# Altium schematic symbol library Feather RP2040.SchLib: 1 symbol
Pins are listed as number, name and electrical type; pins without a type are passive.

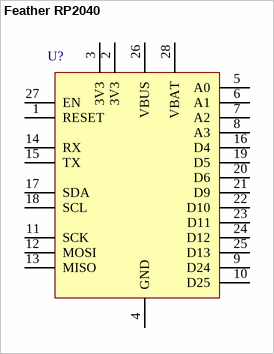
[diagram p0: symbol Feather RP2040]

## Feather RP2040
designator U?  (value not drawn)
pins: 1 RESET, 2 3V3, 3 3V3, 4 GND, 5 A0, 6 A1, 7 A2, 8 A3, 9 D24, 10 D25, 11 SCK, 12 MOSI, 13 MISO, 14 RX, 15 TX, 16 D4, 17 SDA, 18 SCL, 19 D5, 20 D6, 21 D9, 22 D10, 23 D11, 24 D12, 25 D13, 26 VBUS, 27 EN, 28 VBAT